# EAGLE library part NMJ6HCD2 (library audio)
M-Series 1/4" Mono Phone Connector
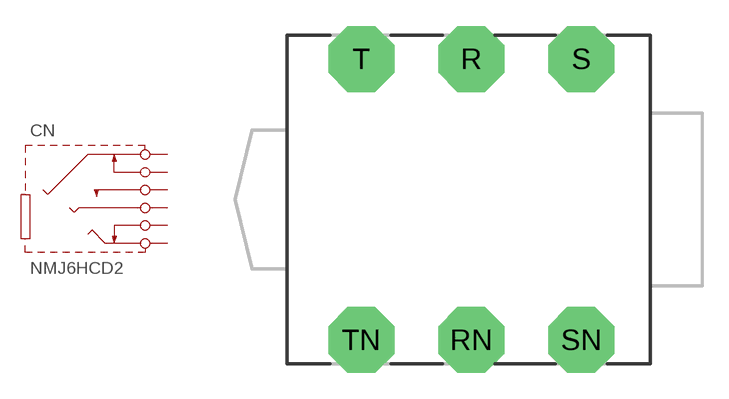
[diagram p2: symbol with the pads of NMJ6HCD2; footprint NMJ6HCD2]

Designator prefix CN

## NMJ6HCD2  [NMJ6HCD2]
R  RING  pas
RN  RING-S  pas
S  SLEEVE  pas
SN  SLEEVE-S  pas
T  TIP  pas
TN  TIP-S  pas

## Footprint NMJ6HCD2 (pad centres in mm)
NMJ6H M-Series
drill 1.778 pad 3.81 octagon: R -10.35,8.115; RN -10.35,-8.115; S -4,8.115; T -16.7,8.115; TN -16.7,-8.115
drill 1.676 pad 3.81 octagon: SN -4,-8.115